# Altium footprint library PCB - CONNECTOR - AMPHENOL RJE392886410.PCBLIB: 1 footprints
Each footprint in its own frame and in the unit in brackets; x right, y up, seen from the top. Pads: shape width x height; smd on the part's side, far side on the other; paste and mask are expansions set on the pad; w line width, h text height; cw(c..) or ccw(c..) is an arc to the next point about the centre after c.
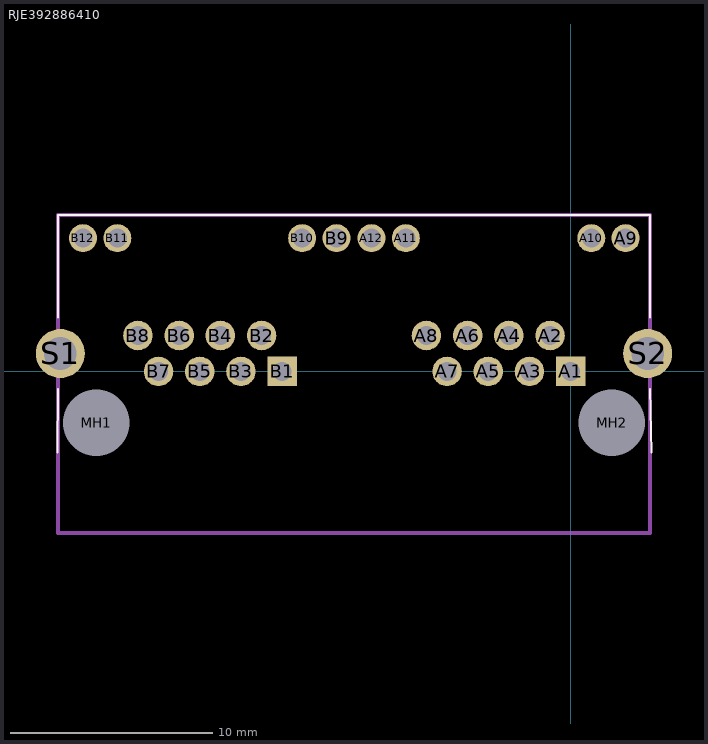
[diagram p0: the footprint, top view; thin cyan lines are the x and y axes]

## RJE392886410 [mm]
pads (28):
  rect 1.462x1.462 hole 0.94: A1(0,0) B1(-14.28,0)
  round 1.462 hole 0.94: A2(-1.02,1.78) A3(-2.04,0) A4(-3.06,1.78) A5(-4.08,0) A6(-5.1,1.78) A7(-6.12,0) A8(-7.14,1.78) B2(-15.3,1.78) B3(-16.32,0) B4(-17.34,1.78) B5(-18.36,0) B6(-19.38,1.78) B7(-20.4,0) B8(-21.42,1.78)
  round 1.386 hole 0.94: A9(2.72,6.6) A10(1.02,6.6) A11(-8.16,6.6) A12(-9.86,6.6) B9(-11.59,6.6) B10(-13.29,6.6) B11(-22.44,6.6) B12(-24.14,6.6)
  round 1.65 hole 3.3 unplated: MH1(-23.48,-2.54) MH2(2.03,-2.54)
  round 2.43 hole 1.62: S1(-25.26,0.89) S2(3.81,0.89)
Top Overlay:
  lines w0.1: -25.4,-4 -25.385,-0.88 ; -25.385,2.68 -25.385,7.75 3.935,7.75 3.935,2.68 ; 3.935,-0.88 4,-4
Top Value (Mech13):
  lines w0.2: -25.385,-8 3.935,-8 3.935,7.75 -25.385,7.75 -25.385,-8
3D body "RJE392886410.stp": height 13.3, standoff -5, extent -25.97,-8 4.52,7.75